# EAGLE library part TXS0108E (library MCE_CircuitosIntegrados)
TXS0108E 8-Bit Bi-Directional, Level-Shifting, Voltage Translator for Open-Drain and Push-Pull Applications
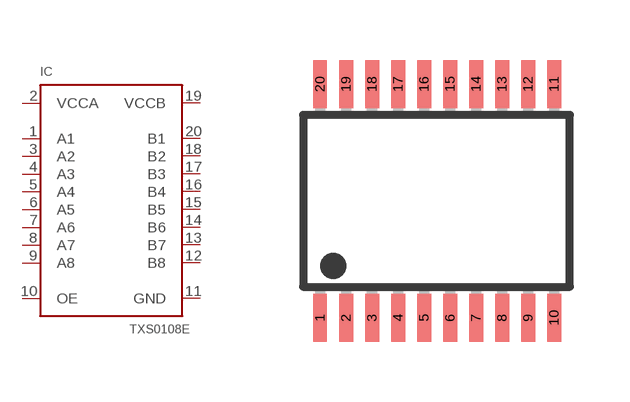
[diagram p20: symbol with the pads of TSSOP20; footprint TSSOP20]

Designator prefix IC

## TXS0108E  [TSSOP20]
1  A1  in
2  VCCA  pwr
3  A2  in
4  A3  in
5  A4  in
6  A5  in
7  A6  in
8  A7  in
9  A8  in
10  OE  in
11  GND  pwr
12  B8  out
13  B7  out
14  B6  out
15  B5  out
16  B4  out
17  B3  out
18  B2  out
19  VCCB  pwr
20  B1  out

## Footprint TSSOP20 (pad centres in mm)
smd 0.35 x 1.2: 1 -2.91,-2.925; 2 -2.26,-2.925; 3 -1.61,-2.925; 4 -0.96,-2.925; 5 -0.31,-2.925; 6 0.34,-2.925; 7 0.99,-2.925; 8 1.64,-2.925; 9 2.29,-2.925; 10 2.94,-2.925; 11 2.94,2.925; 12 2.29,2.925; 13 1.64,2.925; 14 0.99,2.925; 15 0.34,2.925; 16 -0.31,2.925; 17 -0.96,2.925; 18 -1.61,2.925; 19 -2.26,2.925; 20 -2.91,2.925